# EAGLE library part AS-ITM-00364 (library tinycircuits)
OLED SCREEN WHITE 0.69" 96x16
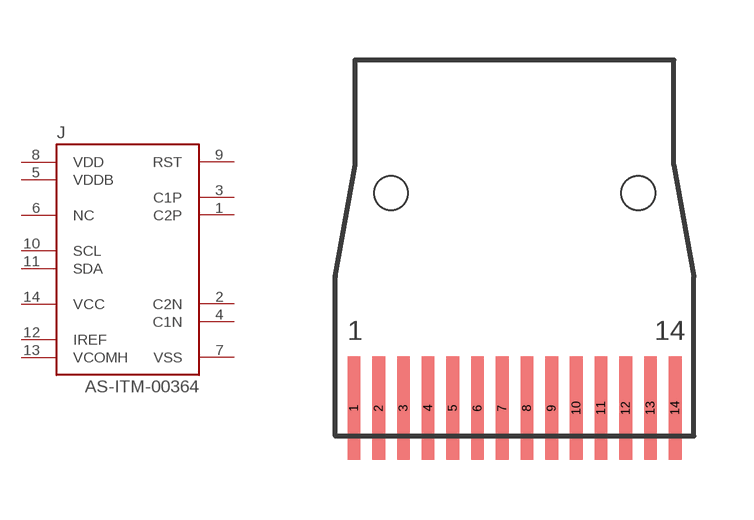
[diagram p145: symbol with the pads of OLED_WHITE_0.69"; footprint OLED_WHITE_0.69"]

Designator prefix J

## AS-ITM-00364 (PARTNO: AS-ITM-00364; VALUE: OLED 0.69")  [OLED_WHITE_0.69"]
1  C2P
2  C2N
3  C1P
4  C1N
5  VDDB
6  NC
7  VSS
8  VDD
9  RST
10  SCL
11  SDA
12  IREF
13  VCOMH
14  VCC

## Footprint OLED_WHITE_0.69" (pad centres in mm)
OLED SCREEN WHITE 0.69" 96x16 MARQUEE
smd 0.32 x 2.6: 1 -4.03,-3.55; 2 -3.41,-3.55; 3 -2.79,-3.55; 4 -2.17,-3.55; 5 -1.55,-3.55; 6 -0.93,-3.55; 7 -0.31,-3.55; 8 0.31,-3.55; 9 0.93,-3.55; 10 1.55,-3.55; 11 2.17,-3.55; 12 2.79,-3.55; 13 3.41,-3.55; 14 4.03,-3.55
hole 0.85 at -3.1,1.85
hole 0.85 at 3.1,1.85